# Altium schematic symbol library ICs.SchLib: 3 symbols
Pins are listed as number, name and electrical type; pins without a type are passive.

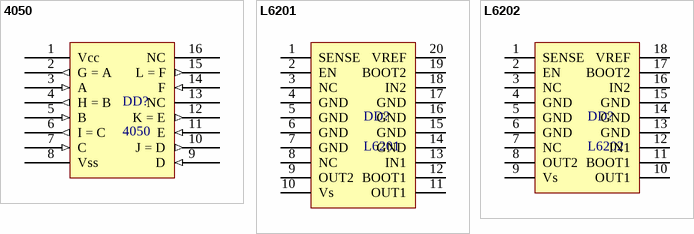
[diagram p0: symbols 4050 to L6202]

## 4050
designator DD?
6ch buffer
footprint SO-16
pins: 1 Vcc (power), 2 G = A (out), 3 A (in), 4 H = B (out), 5 B (in), 6 I = C (out), 7 C (in), 8 Vss (power), 9 D (in), 10 J = D (out), 11 E (in), 12 K = E (out), 13 NC, 14 F (in), 15 L = F (out), 16 NC

## L6201
designator DD?
Motor driver
footprint SO-20
pins: 1 SENSE, 2 EN, 3 NC, 4 GND, 5 GND, 6 GND, 7 GND, 8 NC, 9 OUT2, 10 Vs, 11 OUT1, 12 BOOT1, 13 IN1, 14 GND, 15 GND, 16 GND, 17 GND, 18 IN2, 19 BOOT2, 20 VREF

## L6202
designator DD?
Motor driver
footprint DIP-18
pins: 1 SENSE, 2 EN, 3 NC, 4 GND, 5 GND, 6 GND, 7 NC, 8 OUT2, 9 Vs, 10 OUT1, 11 BOOT1, 12 IN1, 13 GND, 14 GND, 15 GND, 16 IN2, 17 BOOT2, 18 VREF